# Altium footprint library 开源小遥控.PcbLib: 21 footprints (part 1 of 2)
Each footprint in its own frame and in the unit in brackets; x right, y up, seen from the top. Pads: shape width x height; smd on the part's side, far side on the other; paste and mask are expansions set on the pad; w line width, h text height; cw(c..) or ccw(c..) is an arc to the next point about the centre after c.
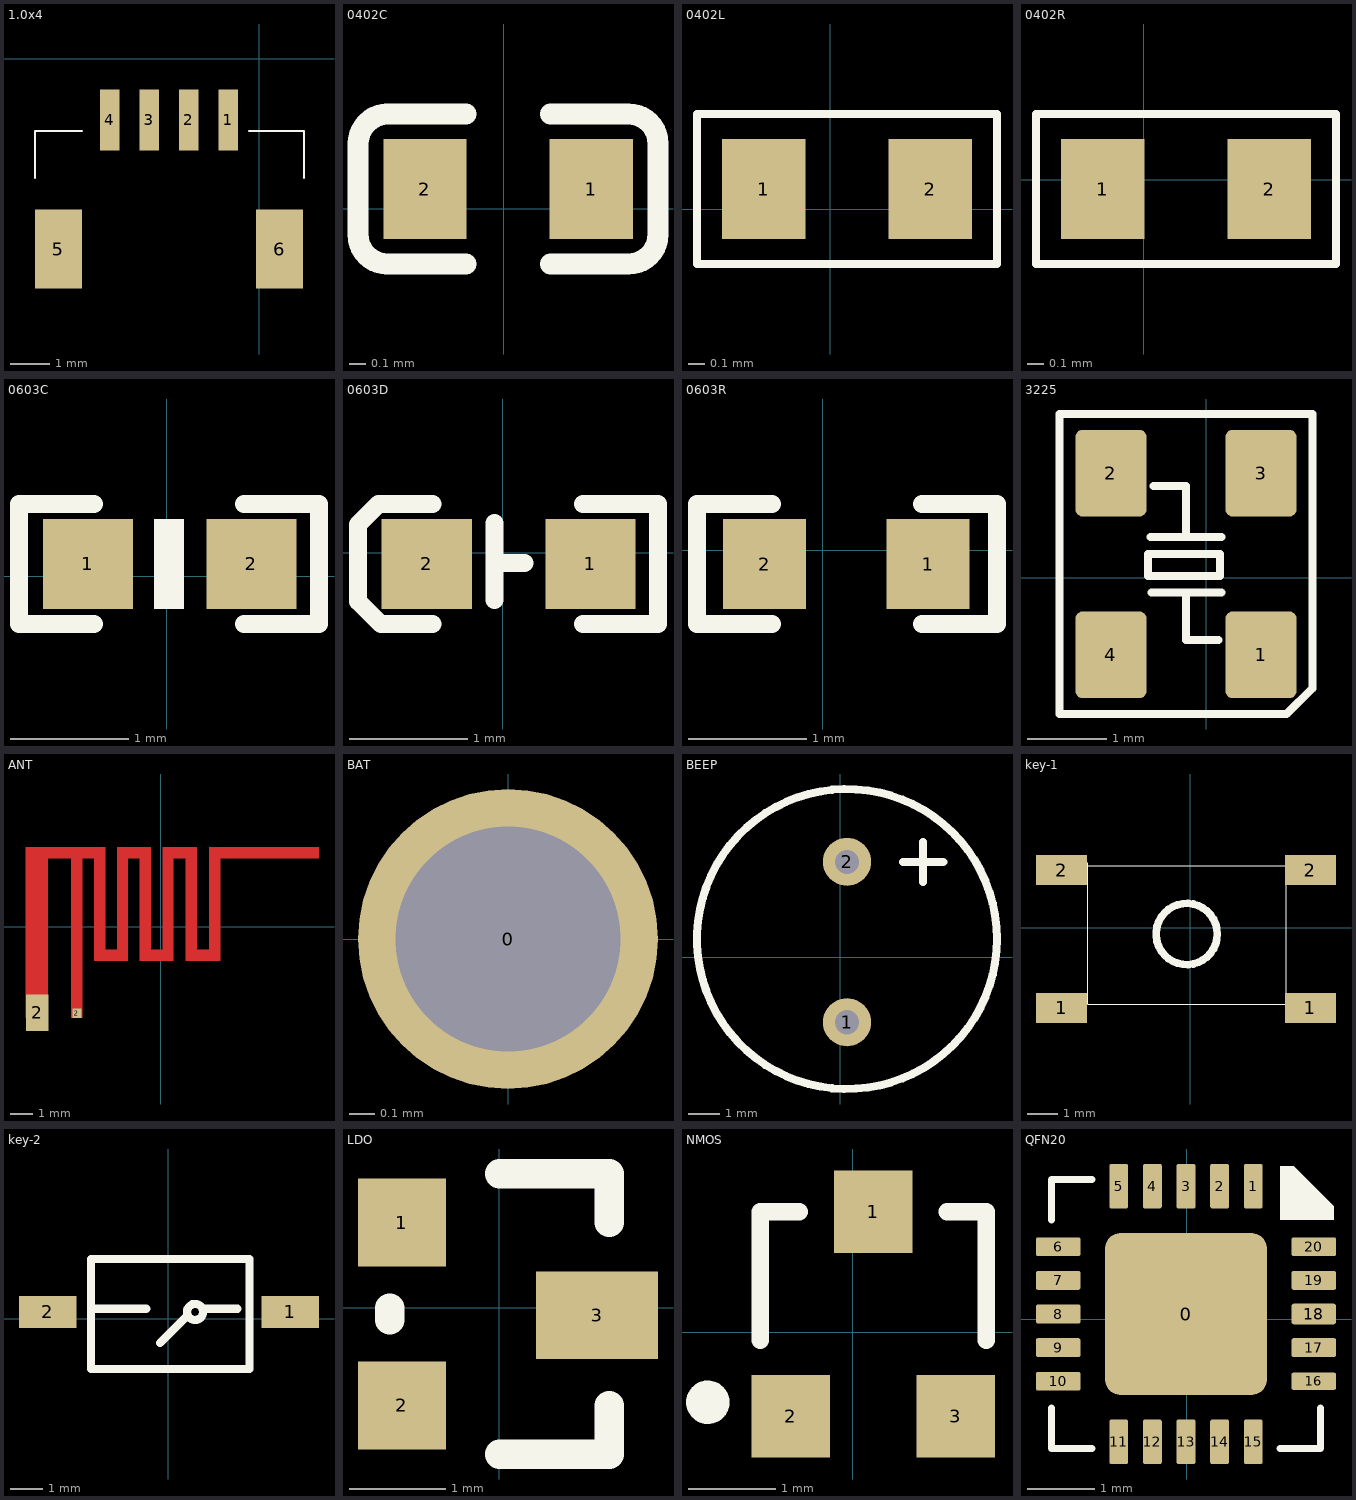
[diagram p0: the footprints below, top view; thin cyan lines are the x and y axes]

## 1.0x4 [mm]
pads (6):
  rect 0.5x1.55 smd: 1(-0.78,-1.551) 2(-1.78,-1.551) 3(-2.78,-1.551) 4(-3.78,-1.551)
  rect 1.2x2 smd: 5(-5.08,-4.826) 6(0.52,-4.826)
Top Overlay:
  lines w0.051: -5.68,-3.026 -5.68,-1.826 -4.48,-1.826 ; -0.254,-1.826 0.841,-1.826 1.14,-1.826 1.14,-3.026
3D body: height 2.9, standoff 0, extent -5.223,-6.27 0.777,-1.32

## 0402C [mm]
pads (2):
  rect 0.5x0.6 smd: 1(0.525,0.119) 2(-0.475,0.119)
Top Overlay:
  lines w0.127: -0.877,-0.154 ccw(c-0.7,-0.154) -0.7,-0.332 ; -0.876,-0.154 -0.876,0.392 cw(c-0.699,0.392) -0.699,0.57 ; -0.708,-0.332 -0.229,-0.332 ; -0.708,0.57 -0.229,0.57 ; 0.279,-0.332 0.749,-0.332 ccw(c0.749,-0.154) 0.927,-0.154 0.927,0.392 ccw(c0.749,0.392) 0.749,0.57 0.279,0.57
3D body: height 0.2, standoff 0, extent -0.45,-0.18 0.55,0.42

## 0402L [mm]
pads (2):
  rect 0.5x0.6 smd: 1(-0.398,0.123) 2(0.602,0.123)
Top Overlay:
  lines w0.051: -0.8,-0.328 -0.8,0.574 1.003,0.574 1.003,-0.328 -0.8,-0.328
3D body: height 0.5, standoff 0, extent -0.407,-0.116 0.593,0.384

## 0402R [mm]
pads (2):
  rect 0.5x0.6 smd: 1(-0.246,-0.055) 2(0.754,-0.055)
Top Overlay:
  lines w0.051: -0.648,-0.506 1.156,-0.506 1.156,0.396 -0.648,0.396 -0.648,-0.506
3D body: height 0.34, standoff -0.01, extent -0.25,-0.3 0.75,0.2

## 0603C [mil]
pads (2):
  rect 30x30 smd: 1(-26.25,4.1) 2(28.25,4.03)
Top Overlay:
  region: 5.77,-10.94 5.77,19.06 -4.23,19.06 -4.23,-10.94
  lines w6: -24.25,-15.97 -49.25,-15.97 -49.25,24.03 -24.25,24.03 ; 25.75,-15.97 50.75,-15.97 50.75,24.03 25.75,24.03
3D body: height 11.89, standoff 0, extent -32,-12.08 30.99,19.42

## 0603D [mil]
pads (2):
  rect 30x30 smd: 1(29.25,-3.74) 2(-25.25,-3.68)
Top Overlay:
  lines w6: -23.25,-23.74 -40.55,-23.74 -48.13,-16.16 -48.13,9.43 -41.3,16.26 -23.25,16.26 ; -2.66,-15.76 -2.66,9.83 ; -0.49,-3.36 7.27,-3.47 ; 26.75,-23.74 51.75,-23.74 51.75,16.26 26.75,16.26
3D body: height 23.82, standoff -0.04, extent -29.92,-19.77 33.07,11.81

## 0603R [mm]
pads (2):
  rect 0.7x0.762 smd: 1(0.893,-0.118) 2(-0.492,-0.116)
Top Overlay:
  lines w0.152: -0.428,-0.624 -1.063,-0.624 -1.063,0.392 -0.428,0.392 ; 0.842,-0.624 1.477,-0.624 1.477,0.392 0.842,0.392
3D body: height 0.45, standoff 0, extent -0.6,-0.506 1,0.314

## 3225 [mm]
pads (4):
  rrect20% 0.9x1.1 smd: 1(0.695,-0.974) 2(-1.205,1.326) 3(0.695,1.326) 4(-1.205,-0.974)
Top Overlay:
  lines w0.102: -0.705,0.516 0.195,0.516 ; -0.695,-0.184 0.195,-0.184 ; -0.665,1.163 -0.255,1.163 -0.255,0.516 ; -0.255,-0.184 -0.255,-0.787 0.155,-0.787 ; 0.165,0.026 -0.735,0.026 -0.735,0.303 0.175,0.303 0.175,0.026 ; -1.855,-1.724 -1.855,2.076 1.345,2.076 1.345,-1.399 1.02,-1.724 -1.855,-1.724
3D body: height 0.7, standoff -0.02, extent -1.53,-1.45 0.97,1.75

## ANT [mm]
pads (2):
  rect 1x1.6 smd: 2(-5.423,-3.787)
  rect 0.4x0.4 smd: 2(-3.68,-3.807)
Top Layer:
  rectangle: -0.93,-1.507 0.57,-1.007
  rectangle: -1.93,2.993 -0.43,3.493
  rectangle: 2.151,2.993 6.951,3.493
  rectangle: -2.93,-1.507 -2.43,3.493
  rectangle: -3.94,-4.007 -3.44,3.15
  rectangle: -5.94,-4.007 -4.94,3.493
  rectangle: -1.93,-1.507 -1.43,3.493
  rectangle: -5.93,2.993 -2.43,3.493
  rectangle: -0.93,-1.507 -0.43,3.493
  rectangle: -2.93,-1.507 -1.43,-1.007
  rectangle: 0.07,-1.507 0.57,3.493
  rectangle: 0.095,2.993 1.595,3.493
  rectangle: 1.095,-1.507 1.595,3.493
  rectangle: 1.12,-1.507 2.62,-1
  rectangle: 2.12,-1.507 2.62,3.493

## BAT [mm]
pads (1):
  round 1.2 hole 0.9: 0(0,0)

## BEEP [mil]
pads (2):
  round 60 hole 30: 1(8.54,-81.22) 2(8.54,118.78)
Top Overlay:
  circle w10: c8.54,22.56 r187.01
  lines w10: 78.54,118.78 128.54,118.78 ; 103.54,93.78 103.54,143.78
3D body: height 214.57, standoff -139.76, extent -167.72,-152.36 186.61,201.97

## key-1 [mm]
pads (4):
  rect 1.7x1 smd: 1(-4.272,-2.654) 1(3.983,-2.654) 2(-4.272,1.918) 2(3.983,1.918)
Top Overlay:
  circle w0.254: c-0.121,-0.202 r1.016
  lines w0.025: -3.568,2.071 3.19,2.071 3.19,-2.529 -3.41,-2.529 -3.41,2.159
3D body: height 4.25, standoff 0.05, extent -4.729,-3.384 4.271,2.616

## key-2 [mm]
pads (2):
  rect 1.8x1 smd: 1(3.801,0.211) 2(-3.768,0.211)
Top Overlay:
  circle w0.254: c0.829,0.211 r0.25
  lines w0.254: -2.295,0.312 -0.695,0.312 ; -0.263,-0.755 0.579,0.087 0.579,0.211 0.579,0.138 ; 1.058,0.312 1.261,0.312 2.15,0.312 ; -2.422,-1.567 -2.422,1.862 2.531,1.862 2.531,-1.567 -2.422,-1.567
3D body: height 4.4, standoff -0.03, extent -4.453,-1.648 4.747,1.852

## LDO [mil]
pads (3):
  rect 36x36 smd: 1(-40,35) 2(-40,-40)
  rect 50x36 smd: 3(40,-3)
Top Overlay:
  lines w12: -45,-5 -45,0 ; 0,-60 45,-60 45,-40 ; 0,55 45,55 45,35
3D body: height 39.37, standoff -0.79, extent -47.24,-62.6 50.24,52.36

## NMOS [mm]
pads (3):
  rect 0.9x0.95 smd: 1(0.237,1.386) 2(-0.713,-0.964) 3(1.187,-0.964)
Top Overlay:
  circle w0.25: c-1.666,-0.805 r0.125
  lines w0.2: -1.063,-0.089 -1.063,1.386 -0.613,1.386 ; 1.087,1.386 1.537,1.386 1.537,-0.089
3D body: height 1, standoff -0.02, extent -1.23,-1.22 1.69,1.256

## QFN20 [mil]
pads (21):
  rrect20% 95x95 smd: 0(-0.32,3)
  rrect20% 11x26 smd: 1(39.06,77.8) 2(19.37,77.8) 3(-0.32,77.8) 4(-20,77.8) 5(-39.69,77.8) 11(-39.69,-71.8) 12(-20,-71.8) 13(-0.32,-71.8) 14(19.37,-71.8) 15(39.06,-71.8)
  rrect20% 26x11 smd: 6(-75.12,42.37) 7(-75.12,22.68) 8(-75.12,3) 9(-75.12,-16.68) 10(-75.12,-36.37) 17(74.49,-16.68) 19(74.49,22.68) 20(74.49,42.37)
  rrect20% 26x10 smd: 16(74.49,-36.37)
  rrect20% 26x12 smd: 18(74.49,3)
Top Overlay:
  region: 86.3,58.12 86.3,65.99 62.68,89.61 54.8,89.61 54.8,58.12
  lines w4: -79.06,-52.12 -79.06,-75.74 -55.43,-75.74 ; -79.06,58.12 -79.06,81.74 -55.43,81.74 ; 54.8,-75.74 78.43,-75.74 78.43,-52.12
3D body: height 38.4, standoff -0.97, extent -79.26,-76.92 79.01,81.35